# Altium footprint library AdamsParts.PcbLib: 238 footprints (part 1 of 15)
Each footprint in its own frame and in the unit in brackets; x right, y up, seen from the top. Pads: shape width x height; smd on the part's side, far side on the other; paste and mask are expansions set on the pad; w line width, h text height; cw(c..) or ccw(c..) is an arc to the next point about the centre after c.
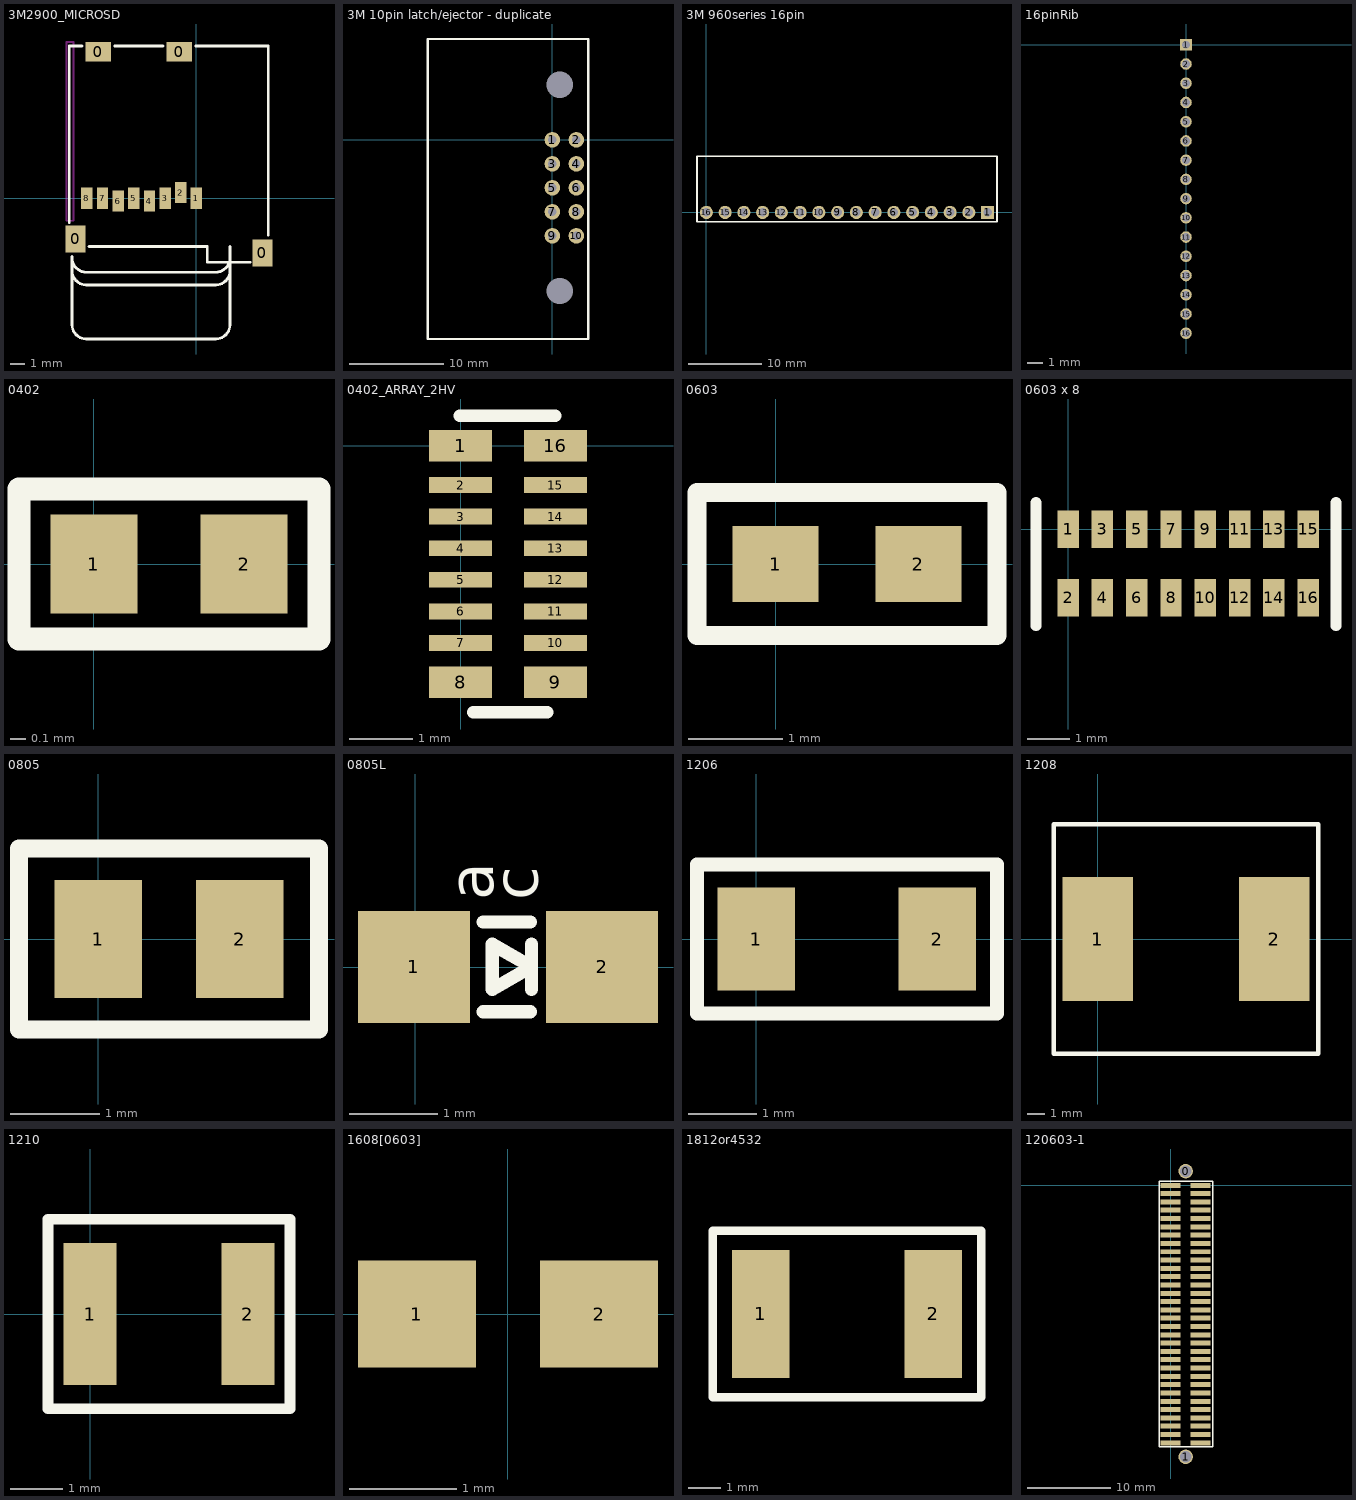
[diagram p0: the footprints below, top view; thin cyan lines are the x and y axes]

## 3M2900_MICROSD [mm]
pads (12):
  rect 1.4x1.9 smd: 0(-8.5,-2.85) 0(4.65,-3.85)
  rect 1.8x1.4 smd: 0(-6.9,10.3) 0(-1.2,10.3)
  rect 0.8x1.5 smd: 1(0,0) 2(-1.1,0.4) 3(-2.2,0) 4(-3.3,-0.2) 5(-4.4,0) 6(-5.5,-0.2) 7(-6.6,0) 8(-7.7,0)
Top Layer keep-out:
  lines w0.127: -9.14,-1.587 -8.64,-1.587 -8.64,10.99 -9.14,10.99 -9.14,-1.587
Top Overlay:
  lines w0.2: -8.94,-1.7 -8.94,10.7 -8.04,10.7 ; -8.74,-5.1 ccw(c-7.74,-5.1) -7.74,-6.1 1.36,-6.1 ccw(c1.36,-5.1) 2.36,-5.1 ; -8.74,-4.2 ccw(c-7.74,-4.2) -7.74,-5.2 1.36,-5.2 ccw(c1.36,-4.2) 2.36,-4.2 ; -8.74,-4.1 -8.74,-8.9 ccw(c-7.74,-8.9) -7.74,-9.9 1.36,-9.9 ccw(c1.36,-8.9) 2.36,-8.9 2.36,-3.4 ; -7.54,-3.4 0.76,-3.4 0.76,-4.5 3.76,-4.5 ; -5.74,10.7 -2.34,10.7 ; -0.04,10.7 5.06,10.7 5.06,-2.6

## 3M 10pin latch/ejector - duplicate [mil]
pads (12):
  round 65 hole 35: 1(0,0) 2(100,0) 3(0,-100) 4(100,-100) 5(0,-200) 6(100,-200) 7(0,-300) 8(100,-300) 9(0,-400) 10(100,-400)
  round 45 hole 110: ""(30,-630) ""(30,230)
Top Overlay:
  lines w10: -520,-830 150,-830 150,420 -520,420 -520,250 -520,-830

## 3M 960series 16pin [mil]
pads (16):
  rect 70x70 hole 45: 1(1500,0)
  round 70 hole 45: 2(1400,0) 3(1300,0) 4(1200,0) 5(1100,0) 6(1000,0) 7(900,0) 8(800,0) 9(700,0) 10(600,0) 11(500,0) 12(400,0) 13(300,0) 14(200,0) 15(100,0) 16(0,0)
Top Overlay:
  lines w10: -50,-50 1550,-50 1550,300 1500,300 0,300 -50,300 -50,-50

## 16pinRib [mil] "16 pin ribbon connector"
pads (16):
  rect 30x30 hole 20: 1(0,0)
  round 30 hole 20: 2(0,-50) 3(0,-100) 4(0,-150) 5(0,-200) 6(0,-250) 7(0,-300) 8(0,-350) 9(0,-400) 10(0,-450) 11(0,-500) 12(0,-550) 13(0,-600) 14(0,-650) 15(0,-700) 16(0,-750)

## 0402 [mm]
pads (2):
  rect 0.58x0.66 smd: 1(0,0) 2(1,0)
Top Overlay:
  lines w0.152: -0.5,-0.5 1.5,-0.5 1.5,0.5 -0.5,0.5 -0.5,-0.5

## 0402_ARRAY_2HV [mm]
pads (16):
  rect 1x0.5 smd: 1(0,0) 8(0,-3.75) 9(1.5,-3.75) 16(1.5,0)
  rect 1x0.25 smd: 2(0,-0.625) 3(0,-1.125) 4(0,-1.625) 5(0,-2.125) 6(0,-2.625) 7(0,-3.125) 10(1.5,-3.125) 11(1.5,-2.625) 12(1.5,-2.125) 13(1.5,-1.625) 14(1.5,-1.125) 15(1.5,-0.625)
Top Overlay:
  lines w0.2: -0.01,0.475 1.5,0.475 ; 0.2,-4.225 1.37,-4.225

## 0603 [mil]
pads (2):
  rect 36x32 smd: 1(0,0) 2(60,0)
Top Overlay:
  lines w8: -33,-30 -33,30 93,30 93,-30 -33,-30

## 0603 x 8 [mil]
pads (16):
  rect 20x35 smd: 1(0,0) 2(0,-64) 3(32,0) 4(32,-64) 5(64,0) 6(64,-64) 7(96,0) 8(96,-64) 9(128,0) 10(128,-64) 11(160,0) 12(160,-64) 13(192,0) 14(192,-64) 15(224,0) 16(224,-64)
Top Overlay:
  lines w10: -30,-90 -30,25 ; 250,-90 250,25

## 0805 [mil]
pads (2):
  rect 38.5x52 smd: 1(0,0) 2(62.5,0)
Top Overlay:
  lines w8: -35,-40 -35,40 97.5,40 97.5,-40 -35,-40

## 0805L [mm] "0805 LED"
pads (2):
  rect 1.27x1.27 smd: 1(-0.014,0.008) 2(2.119,0.008)
Top Overlay:
  lines w0.152: 0.773,-0.5 1.307,-0.5 ; 0.773,0.516 1.307,0.516 ; 1.319,-0.246 1.319,0.262 ; 0.875,-0.246 0.875,0.262 1.319,0.008 0.875,-0.246
  text "a" at 0.885,0.765 h0.51
  text "c" at 1.393,0.765 h0.51

## 1206 [mil]
pads (2):
  rect 45x60 smd: 1(0,0) 2(105,0)
Top Overlay:
  lines w8: -34.45,-43.31 139.76,-43.31 139.76,43.31 -34.45,43.31 -34.45,-43.31

## 1208 [mm]
pads (2):
  rect 4x7 smd: 1(0,0) 2(10,0)
Top Overlay:
  lines w0.254: -2.5,-6.5 -2.5,6.5 12.5,6.5 12.5,-6.5 -2.5,-6.5

## 1210 [mm]
pads (2):
  rect 1x2.7 smd: 1(0,0) 2(3,0)
Top Overlay:
  lines w0.203: -0.8,-1.8 -0.8,1.8 3.8,1.8 3.8,-1.8 -0.8,-1.8

## 1608[0603] [mm]
pads (2):
  rect 1.1x1 smd: 1(-0.85,0) 2(0.85,0)

## 1812or4532 [mm]
pads (2):
  rect 1.75x3.9 smd: 1(-1272.625,-1270) 2(-1267.375,-1270)
Top Overlay:
  lines w0.254: -1274.09,-1272.54 -1274.09,-1270 -1274.09,-1267.46 -1265.91,-1267.46 -1265.91,-1272.54 -1274.09,-1272.54

## 120603-1 [mm]
pads (66):
  round 1.727 hole 1.422: 0(1.803,1.702) 1(1.803,-32.69)
  rect 2.4x0.6 smd: 1(3.6,0) 2(0,0) 3(3.6,-1) 4(0,-1) 5(3.6,-2) 6(0,-2.032) 7(3.6,-3) 8(0,-3) 9(3.6,-4) 10(0,-4) 11(3.6,-5) 12(0,-5) 13(3.6,-6) 14(0,-6) 15(3.6,-7) 16(0,-7) 17(3.6,-8) 18(0,-8) 19(3.6,-9) 20(0,-9) 21(3.6,-10) 22(0,-10) 23(3.6,-11) 24(0,-11) 25(3.6,-12) 26(0,-12) 27(3.6,-13) 28(0,-13) 29(3.6,-13.97) 30(0,-14) 31(3.6,-15) 32(0,-15) 33(3.6,-16) 34(0,-16) 35(3.6,-17) 36(0,-17) 37(3.6,-18) 38(0,-18) 39(3.6,-19) 40(0,-19) 41(3.6,-20) 42(0,-20) 43(3.6,-21) 44(0,-21) 45(3.6,-22) 46(0,-22) 47(3.6,-23) 48(0,-23) 49(3.6,-24) 50(0,-24) 51(3.6,-25) 52(0,-25) 53(3.6,-26) 54(0,-26) 55(3.6,-27) 56(0,-27) 57(3.6,-28) 58(0,-28) 59(3.6,-29) 60(0,-29) 61(3.6,-30) 62(0,-30) 63(3.6,-31) 64(0,-31)
Top Overlay:
  lines w0.2: 1.524,0.508 5.08,0.508 5.08,-31.496 -1.397,-31.496 -1.397,0.508 1.905,0.508